# EAGLE library part MKL25Z128VLK4 (library mbed-KL25Z)
IC 32BIT MCU KINETIS L2 48MHZ 80-LQFP
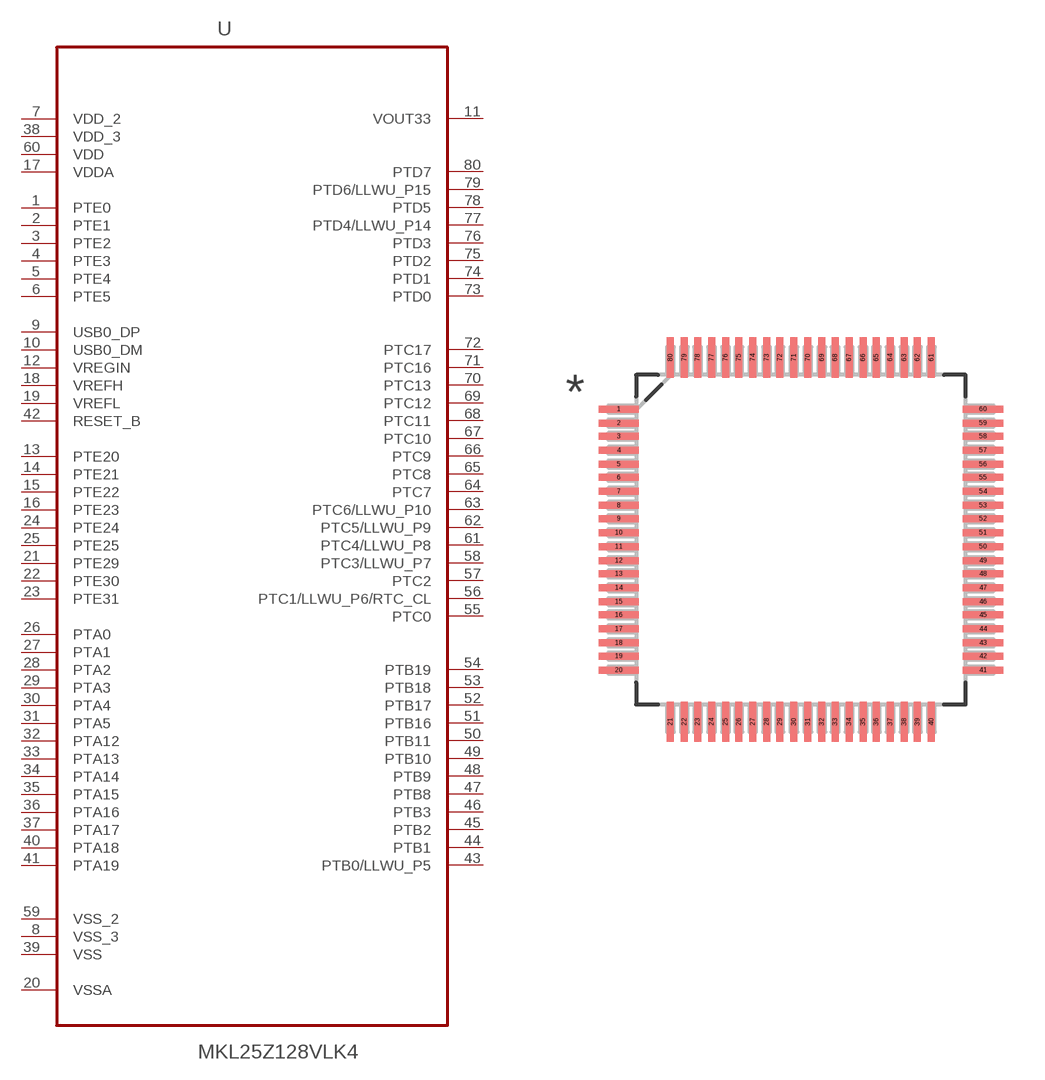
[diagram p0: symbol with the pads of QFP50P1400X1400X160-80N; footprint QFP50P1400X1400X160-80N]

Designator prefix U

## MKL25Z128VLK4 (MPN: MKL25Z128VLK4; OC_FARNELL: 2212797; OC_NEWARK: 44W0180; PACKAGE: 80-LQFP; SUPPLIER: FREESCALE SEMICONDUCTOR)  [QFP50P1400X1400X160-80N]
1  PTE0
2  PTE1
3  PTE2
4  PTE3
5  PTE4
6  PTE5
7  VDD_2  pwr
8  VSS_3  pwr
9  USB0_DP  in
10  USB0_DM  in
11  VOUT33  out
12  VREGIN  in
13  PTE20
14  PTE21
15  PTE22
16  PTE23
17  VDDA  pwr
18  VREFH  in
19  VREFL  in
20  VSSA  in
21  PTE29
22  PTE30
23  PTE31
24  PTE24
25  PTE25
26  PTA0
27  PTA1
28  PTA2
29  PTA3
30  PTA4
31  PTA5
32  PTA12
33  PTA13
34  PTA14
35  PTA15
36  PTA16
37  PTA17
38  VDD_3  pwr
39  VSS  pwr
40  PTA18
41  PTA19
42  RESET_B  in
43  PTB0/LLWU_P5
44  PTB1
45  PTB2
46  PTB3
47  PTB8
48  PTB9
49  PTB10
50  PTB11
51  PTB16
52  PTB17
53  PTB18
54  PTB19
55  PTC0
56  PTC1/LLWU_P6/RTC_CL
57  PTC2
58  PTC3/LLWU_P7
59  VSS_2  pwr
60  VDD  pwr
61  PTC4/LLWU_P8
62  PTC5/LLWU_P9
63  PTC6/LLWU_P10
64  PTC7
65  PTC8
66  PTC9
67  PTC10
68  PTC11
69  PTC12
70  PTC13
71  PTC16
72  PTC17
73  PTD0
74  PTD1
75  PTD2
76  PTD3
77  PTD4/LLWU_P14
78  PTD5
79  PTD6/LLWU_P15
80  PTD7

## Footprint QFP50P1400X1400X160-80N (pad centres in mm)
smd 1.473 x 0.254: 1 -6.629,4.75; 2 -6.629,4.242; 3 -6.629,3.759; 4 -6.629,3.251; 5 -6.629,2.743; 6 -6.629,2.261; 7 -6.629,1.753; 8 -6.629,1.245; 9 -6.629,0.762; 10 -6.629,0.254; 11 -6.629,-0.254; 12 -6.629,-0.762; 13 -6.629,-1.245; 14 -6.629,-1.753; 15 -6.629,-2.261; 16 -6.629,-2.743; 17 -6.629,-3.251; 18 -6.629,-3.759; 19 -6.629,-4.242; 20 -6.629,-4.75; 41 6.629,-4.75; 42 6.629,-4.242; 43 6.629,-3.759; 44 6.629,-3.251; 45 6.629,-2.743; 46 6.629,-2.261; 47 6.629,-1.753; 48 6.629,-1.245; 49 6.629,-0.762; 50 6.629,-0.254; 51 6.629,0.254; 52 6.629,0.762; 53 6.629,1.245; 54 6.629,1.753; 55 6.629,2.261; 56 6.629,2.743; 57 6.629,3.251; 58 6.629,3.759; 59 6.629,4.242; 60 6.629,4.75
smd 0.254 x 1.473: 21 -4.75,-6.629; 22 -4.242,-6.629; 23 -3.759,-6.629; 24 -3.251,-6.629; 25 -2.743,-6.629; 26 -2.261,-6.629; 27 -1.753,-6.629; 28 -1.245,-6.629; 29 -0.762,-6.629; 30 -0.254,-6.629; 31 0.254,-6.629; 32 0.762,-6.629; 33 1.245,-6.629; 34 1.753,-6.629; 35 2.261,-6.629; 36 2.743,-6.629; 37 3.251,-6.629; 38 3.759,-6.629; 39 4.242,-6.629; 40 4.75,-6.629; 61 4.75,6.629; 62 4.242,6.629; 63 3.759,6.629; 64 3.251,6.629; 65 2.743,6.629; 66 2.261,6.629; 67 1.753,6.629; 68 1.245,6.629; 69 0.762,6.629; 70 0.254,6.629; 71 -0.254,6.629; 72 -0.762,6.629; 73 -1.245,6.629; 74 -1.753,6.629; 75 -2.261,6.629; 76 -2.743,6.629; 77 -3.251,6.629; 78 -3.759,6.629; 79 -4.242,6.629; 80 -4.75,6.629